# EAGLE library part SAME-BOARD (library ATSAME51G19A_CAN_BREAKOUT)
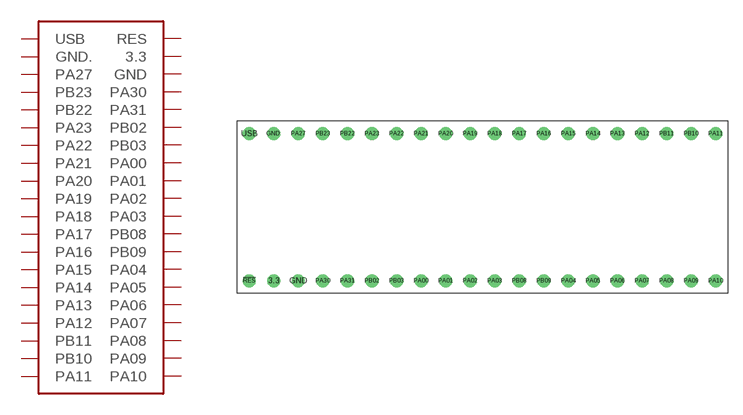
[diagram p1: symbol with the pads of BOARDOUTLINE; footprint BOARDOUTLINE]

Designator prefix -

## SAME-BOARD  [BOARDOUTLINE]
3.3  3.3
!RES  RES
GND  GND
GND.  GND.
PA00  PA00
PA01  PA01
PA02  PA02
PA03  PA03
PA04  PA04
PA05  PA05
PA06  PA06
PA07  PA07
PA08  PA08
PA09  PA09
PA10  PA10
PA11  PA11
PA12  PA12
PA13  PA13
PA14  PA14
PA15  PA15
PA16  PA16
PA17  PA17
PA18  PA18
PA19  PA19
PA20  PA20
PA21  PA21
PA22  PA22
PA23  PA23
PA27  PA27
PA30  PA30
PA31  PA31
PB02  PB02
PB03  PB03
PB08  PB08
PB09  PB09
PB10  PB10
PB11  PB11
PB22  PB22
PB23  PB23
USB  USB

## Footprint BOARDOUTLINE (pad centres in mm)
drill 0.85 pad 1.2: 3.3 3.81,1.27; !RES 1.27,1.27; GND 6.35,1.27; GND. 3.81,16.51; PA00 19.05,1.27; PA01 21.59,1.27; PA02 24.13,1.27; PA03 26.67,1.27; PA04 34.29,1.27; PA05 36.83,1.27; PA06 39.37,1.27; PA07 41.91,1.27; PA08 44.45,1.27; PA09 46.99,1.27; PA10 49.53,1.27; PA11 49.53,16.51; PA12 41.91,16.51; PA13 39.37,16.51; PA14 36.83,16.51; PA15 34.29,16.51; PA16 31.75,16.51; PA17 29.21,16.51; PA18 26.67,16.51; PA19 24.13,16.51; PA20 21.59,16.51; PA21 19.05,16.51; PA22 16.51,16.51; PA23 13.97,16.51; PA27 6.35,16.51; PA30 8.89,1.27; PA31 11.43,1.27; PB02 13.97,1.27; PB03 16.51,1.27; PB08 29.21,1.27; PB09 31.75,1.27; PB10 46.99,16.51; PB11 44.45,16.51; PB22 11.43,16.51; PB23 8.89,16.51; USB 1.27,16.51